# Altium footprint library bmb_extender.PcbLib: 2 footprints
Each footprint in its own frame and in the unit in brackets; x right, y up, seen from the top. Pads: shape width x height; smd on the part's side, far side on the other; paste and mask are expansions set on the pad; w line width, h text height; cw(c..) or ccw(c..) is an arc to the next point about the centre after c.
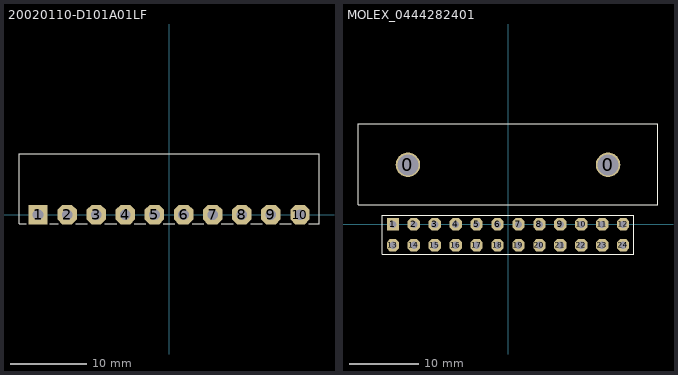
[diagram p0: the footprints below, top view; thin cyan lines are the x and y axes]

## 20020110-D101A01LF [mm]
pads (10):
  rect 2.54x2.54 hole 1.4: 1(-17.145,0)
  oct 2.54x2.54 hole 1.4: 2(-13.335,0) 3(-9.525,0) 4(-5.715,0) 5(-1.905,0) 6(1.905,0) 7(5.715,0) 8(9.525,0) 9(13.335,0) 10(17.145,0)
Top Overlay:
  lines w0.127: -18.669,-1.2 -19.634,-1.2 -19.634,8 19.634,8 19.634,-1.2 18.288,-1.2 ; -15.621,-1.2 -14.478,-1.2 ; -12.192,-1.2 -10.668,-1.2 ; -8.382,-1.2 -6.858,-1.2 ; -4.572,-1.2 -3.048,-1.2 ; -0.762,-1.2 0.762,-1.2 ; 3.048,-1.2 4.572,-1.2 ; 6.858,-1.2 8.382,-1.2 ; 10.668,-1.2 12.192,-1.2 ; 14.478,-1.2 16.002,-1.2

## MOLEX_0444282401 [mm]
pads (26):
  round 3.5 hole 3: 0(-14.34,8.53) 0(14.34,8.53)
  rect 1.75x1.75 hole 1.02: 1(-16.5,0)
  oct 1.75x1.75 hole 1.02: 2(-13.5,0) 3(-10.5,0) 4(-7.5,0) 5(-4.5,0) 6(-1.5,0) 7(1.5,0) 8(4.5,0) 9(7.5,0) 10(10.5,0) 11(13.5,0) 12(16.5,0) 13(-16.5,-3) 14(-13.5,-3) 15(-10.5,-3) 16(-7.5,-3) 17(-4.5,-3) 18(-1.5,-3) 19(1.5,-3) 20(4.5,-3) 21(7.5,-3) 22(10.5,-3) 23(13.5,-3) 24(16.5,-3)
Top Overlay:
  lines w0.127: -21.5,2.83 -21.5,14.43 21.5,14.43 21.5,2.83 -21.5,2.83 ; -18,-4.3 18,-4.3 18,1.3 -18,1.3 -18,-4.3